# Altium footprint library AC to DC Converters.PcbLib: 2 footprints
Each footprint in its own frame and in the unit in brackets; x right, y up, seen from the top. Pads: shape width x height; smd on the part's side, far side on the other; paste and mask are expansions set on the pad; w line width, h text height; cw(c..) or ccw(c..) is an arc to the next point about the centre after c.
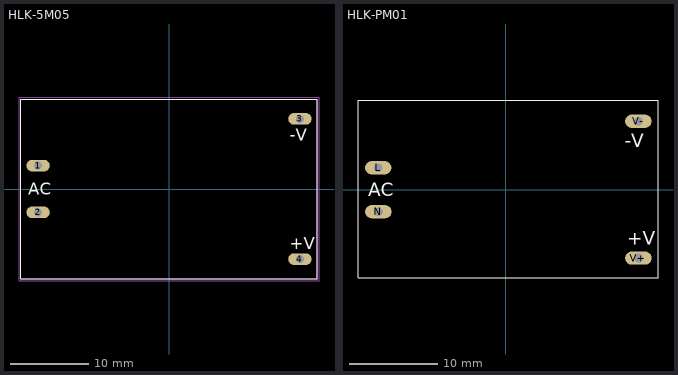
[diagram p0: the footprints below, top view; thin cyan lines are the x and y axes]

## HLK-5M05 [mm]
pads (4):
  oval 3x1.5 hole 1: 1(-16.8,3) 2(-16.8,-3) 3(16.8,9) 4(16.8,-9)
Top Overlay:
  lines w0.127: -19,-11.5 19,-11.5 19,11.5 -19,11.5 -19,-11.5
  text "AC" at -18.034,-0.762 h1.52
  text "-V" at 15.494,6.223 h1.52
  text "+V" at 15.494,-7.747 h1.52
Mechanical 13:
  lines w0.127: -19,-11.5 -19,11.5 19,11.5 19,-11.5 -19,-11.5
Mechanical 15:
  lines w0.05: -19.25,-11.75 -19.25,11.75 19.25,11.75 19.25,-11.75 -19.25,-11.75
3D body "Ac to DC Transformer (HLK-5M05).STEP": height 18, standoff -5, extent -19,-11.5 19,11.5

## HLK-PM01 [mm]
pads (4):
  oval 3x1.5 hole 1: L(-14.478,2.489) N(-14.453,-2.489) V+(15,-7.75) V-(15,7.75)
Top Overlay:
  lines w0.127: -16.764,-10 -16.764,10.16 17.221,10.16 17.221,-10 -16.764,-10
  text "+V" at 13.716,-6.223 h1.52
  text "-V" at 13.462,4.826 h1.52
  text "AC" at -15.621,-0.762 h1.52
3D body "HLK-PM01.step": height 15, standoff -5, extent -16.728,-10.04 17.272,10.16